# Altium schematic symbol library BZX84C.Schlib: 1 symbol
Pins are listed as number, name and electrical type; pins without a type are passive.

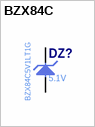
[diagram p0: symbol BZX84C]

## BZX84C
designator DZ?  Manufacturer Part Number: BZX84C5V1LT1G  Zener Voltage: 5.1V  (hidden comment: BZX84C)
Zener
pins: 1 A, 3 C
1 alternate drawing of the same symbol